# Altium schematic symbol library ParallellaLCDBoard.SCHLIB: 15 symbols
Pins are listed as number, name and electrical type; pins without a type are passive.

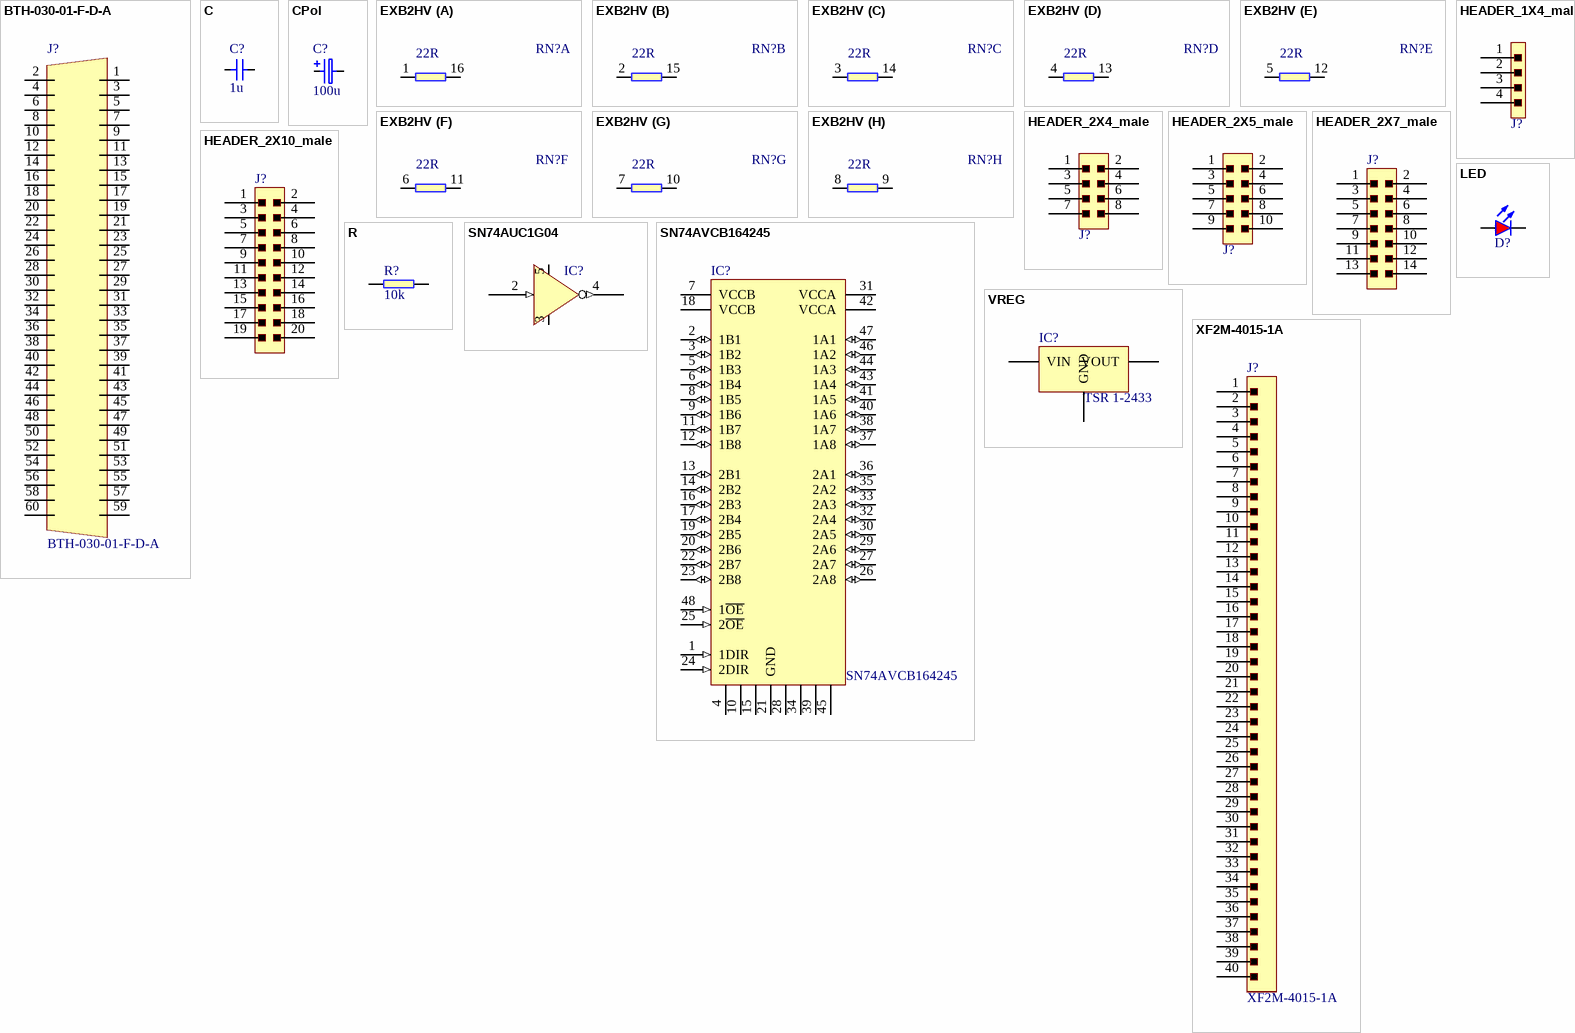
[diagram p0: symbols BTH-030-01-F-D-A to XF2M-4015-1A]

## BTH-030-01-F-D-A
designator J?
Component Type: Standard; Pin Count: 60; Value: BTH-030-01-F-D-A
footprint BTH-030-01-F-D-A
pins: 1, 2, 3, 4, 5, 6, 7, 8, 9, 10, 11, 12, 13, 14, 15, 16, 17, 18, 19, 20, 21, 22, 23, 24, 25, 26, 27, 28, 29, 30, 31, 32, 33, 34, 35, 36, 37, 38, 39, 40, 41, 42, 43, 44, 45, 46, 47, 48, 49, 50, 51, 52, 53, 54, 55, 56, 57, 58, 59, 60

## C
designator C?, comment 1u
MLCC SMT Capacitor 1uF 0603; Part Number: C_1u_0603; Value: 1u; Supplier 1: Farnell; Supplier Part Number 1: 2309013; Component type: standard; Pin count: 2
footprint 0603
pins: 1, 2
1 alternate drawing of the same symbol

## CPol
designator C?, comment 100u
Tantalum SMT Capacitor 100uF Case KEMET_C; Part Number: C_100u_KEMET_C; Voltage: 10V; Value: 100u; Component type: standard; Pin count: 2; Supplier 1: Farnell; Supplier Part Number 1: 2353063
footprint KEMET_C
pins: 1, 2
1 alternate drawing of the same symbol

## EXB2HV
designator RN?, comment 22R
Resistor network 8x0402; Part Number: Rnet22R; Library Reference: EXB2HV; Component Kind: Standard; Component Type: Standard; Footprint: EXB2HV; Pin Count: 16; Value: 22R; Supplier 1: Farnell; Supplier Part Number 1: 2060065
footprint EXB2HV
part A pins: 1, 16
part B pins: 2, 15
part C pins: 3, 14
part D pins: 4, 13
part E pins: 5, 12
part F pins: 6, 11
part G pins: 7, 10
part H pins: 8, 9

## HEADER_1X4_male
designator J?  (value not drawn)
1x4 pinhead male; Supplier 1: Farnell; Supplier Part Number 1: 1022251; ClassName: THT_Component; Component Type: Standard; Pin Count: 4
footprint HEADER_1X4_male 2 mm (Pinhead male 1x4 pitch 2 mm straight)
footprint HEADER_1X4_male 1.27 mm (Pinhead male 1x4 pitch 1.27 mm straight)
footprint HEADER_1X4_male 2.54mm (Pinhead male 1x4 pitch 2.54mm straight)
pins: 1, 2, 3, 4

## HEADER_2X4_male
designator J?  (value not drawn)
2x4 pinhead male; Part Number: HEADER_2X4_male; Component Kind: Standard; Component Type: Standard; Footprint: HEADER_2X4_male 2.54mm; Library Reference: HEADER_2X4_male; Pin Count: 8; Supplier 1: Farnell; Supplier Part Number 1: 7472331; ClassName: THT_Component
footprint HEADER_2X4_male 2mm
pins: 1, 2, 3, 4, 5, 6, 7, 8

## HEADER_2X5_male
designator J?  (value not drawn)
2x5 pinhead male; Part Number: HEADER_2X5_male; Component Kind: Standard; Component Type: Standard; Footprint: HEADER_2X5_male 2.54mm; Library Reference: HEADER_2X5_male; Pin Count: 10; ClassName: THT_Component
footprint HEADER_2X5_male 2.54mm
pins: 1, 2, 3, 4, 5, 6, 7, 8, 9, 10

## HEADER_2X7_male
designator J?, comment Molex-87831-1420  (value not drawn)
2x7 pinhead male; Library Reference: HEADER_2X7_male; Pitch: 2.0; Supplier 1: Farnell; Supplier Part Number 1: 7472285; Part Number: Molex-87831-1420; Component Kind: Standard; Component Type: Standard; Footprint: 87831-1420; Pin Count: 14; ClassName: THT_Component; Value: 87831-1420
footprint 87831-1420
pins: 1, 2, 3, 4, 5, 6, 7, 8, 9, 10, 11, 12, 13, 14

## HEADER_2X10_male
designator J?  (value not drawn)
2x10 pinhead male; Part Number: HEADER_2X10_male; Component Kind: Standard; Component Type: Standard; Footprint: HEADER_2X10_male 2.54mm; Library Reference: HEADER_2X10_male; Pin Count: 20; Supplier 1: Farnell; Supplier Part Number 1: 1022241; ClassName: THT_Component
footprint HEADER_2X10_male 2.54mm
pins: 1, 2, 3, 4, 5, 6, 7, 8, 9, 10, 11, 12, 13, 14, 15, 16, 17, 18, 19, 20

## LED
designator D?, comment Red  (value not drawn)
LED Red 0603 case; Part Number: LED_R; Value: KPT-1608EC; Supplier 1: Farnell; Supplier Part Number 1: 2099221; Component Kind: Standard; Component Type: Standard; Footprint: LED0603; Library Reference: LED; Pin Count: 2
footprint LED0603
pins: A, K

## R
designator R?, comment 10k
SMT Resistor 10k 0603; Part Number: R_10k_0603; Value: 10k; Supplier 1: Farnell; Supplier Part Number 1: 2008360; Component type: standard; Pin count: 2
footprint 0603
pins: 1, 2

## SN74AUC1G04
designator IC?  (value not drawn)
LOGIC, INVERTER GATE, SC-70-5; Value: SN74AUC1G04DCKR; Supplier 1: Farnell; Supplier 2: Mouser; Supplier Part Number 1: 2334905; Supplier Part Number 2: 595-SN74AUC1G04DCKR; Component Type: Standard; Pin Count: 4
footprint SC70-5 (SC70, 5-Leads, Pitch 0,65mm, EIAJ SC-88a)
pins: 2 IN (in), 3 GND (power), 4 OUT (out), 5 VCC (power)

## SN74AVCB164245
designator IC?
SN74AVCB164245GR - IC, NON INVERTING TRANSCEIVER, TSSOP-48; Value: SN74AVCB164245; Supplier 1: Farnell; Supplier Part Number 1: 2412294; Part Number: SN74AVCB164245GR; Component Kind: Standard; Component Type: Standard; Footprint: TSSOP40P640X120-48N; Library Reference: SN74AVCB164245GR; Pin Count: 48; Supplier 4: Arrow; Supplier Part Number 4: SN74AVCB164245GR
footprint TSSOP40P640X120-48N
pins: 1 1DIR (in), 2 1B1 (io), 3 1B2 (io), 4 GND (power), 5 1B3 (io), 6 1B4 (io), 7 VCCB (power), 8 1B5 (io), 9 1B6 (io), 10 GND (power), 11 1B7 (io), 12 1B8 (io), 13 2B1 (io), 14 2B2 (io), 15 GND (power), 16 2B3 (io), 17 2B4 (io), 18 VCCB (power), 19 2B5 (io), 20 2B6 (io), 21 GND (power), 22 2B7 (io), 23 2B8 (io), 24 2DIR (in), 25 2~{OE} (in), 26 2A8 (io), 27 2A7 (io), 28 GND (power), 29 2A6 (io), 30 2A5 (io), 31 VCCA (power), 32 2A4 (io), 33 2A3 (io), 34 GND (power), 35 2A2 (io), 36 2A1 (io), 37 1A8 (io), 38 1A7 (io), 39 GND (power), 40 1A6 (io), 41 1A5 (io), 42 VCCA (power), 43 1A4 (io), 44 1A3 (io), 45 GND (power), 46 1A2 (io), 47 1A1 (io), 48 1~{OE} (in)

## VREG
designator IC?, comment TSR 1-2433
TRACOPOWER - TSR 1-2433 - CONVERTER, DC TO DC, 3.3V, 1A, SIP; Value: TSR 1-2433; Supplier 1: Farnell; Supplier Part Number 1: 1696319; ClassName: THT_Component; Component Type: Standard; Pin Count: 3
footprint TSR1
pins: 1 VIN (power), 2 GND (power), 3 VOUT (power)

## XF2M-4015-1A
designator J?
RECEPTACLE, FPC, ZIF, SMT, 0.5MM, 40WAY; Part Number: XF2M-4015-1A; Component Kind: Standard; Component Type: Standard; Designator: XF2M-4015-1A; Footprint: XF2M-4015-1A; Library Reference: XF2M-4015-1A; Pin Count: 40; Supplier 1: Farnell; Supplier Part Number 1: 1112562; Value: XF2M-4015-1A
footprint XF2M-4015-1A (Omron Electronics FPC connector 40 pin)
pins: 1, 2, 3, 4, 5, 6, 7, 8, 9, 10, 11, 12, 13, 14, 15, 16, 17, 18, 19, 20, 21, 22, 23, 24, 25, 26, 27, 28, 29, 30, 31, 32, 33, 34, 35, 36, 37, 38, 39, 40